# Altium footprint library resistor_footprints.PcbLib: 18 footprints (part 2 of 2)
Each footprint in its own frame and in the unit in brackets; x right, y up, seen from the top. Pads: shape width x height; smd on the part's side, far side on the other; paste and mask are expansions set on the pad; w line width, h text height; cw(c..) or ccw(c..) is an arc to the next point about the centre after c.
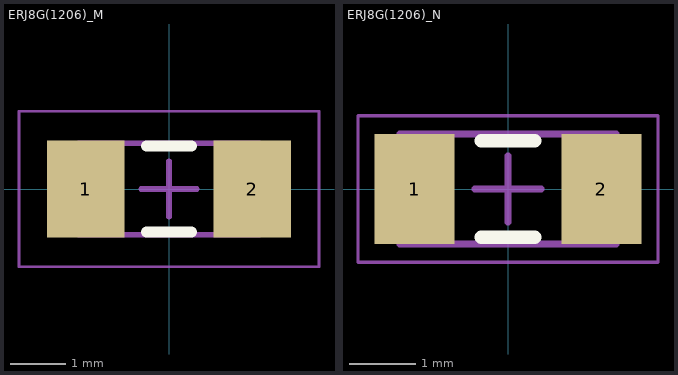
[diagram p1: the footprints below, top view; thin cyan lines are the x and y axes]

## ERJ8G(1206)_M [mm] "Chip Resistor, 2-Leads, Body 3.13x1.55mm, IPC Low Density"
height 0.7
pads (2):
  rect 1.4x1.75 smd: 1(-1.5,0) 2(1.5,0)
Top Overlay:
  lines w0.2: -0.4,-0.775 0.4,-0.775 ; -0.4,0.775 0.4,0.775
Top Assembly:
  lines w0.1: -1.625,-0.825 -1.625,0.825 1.625,0.825 1.625,-0.825 -1.625,-0.825
Top Courtyard:
  lines w0.05: -2.7,-1.4 -2.7,1.4 2.7,1.4 2.7,-1.4 -2.7,-1.4
  lines w0.1: -0.5,0 0.5,0 ; 0,-0.5 0,0.5
3D body: height 0.7, standoff 0, extent -1.125,-0.825 1.125,0.825
3D body: height 0.7, standoff 0, extent -1.625,-0.825 -1.125,0.825
3D body: height 0.7, standoff 0, extent 1.125,-0.825 1.625,0.825

## ERJ8G(1206)_N [mm] "Chip Resistor, 2-Leads, Body 3.13x1.55mm, IPC Medium Density"
height 0.7
pads (2):
  rect 1.2x1.65 smd: 1(-1.4,0) 2(1.4,0)
Top Overlay:
  lines w0.2: -0.4,-0.725 0.4,-0.725 ; -0.4,0.725 0.4,0.725
Top Assembly:
  lines w0.1: -1.625,-0.825 1.625,-0.825 1.625,0.825 -1.625,0.825 -1.625,-0.825
Top Courtyard:
  lines w0.05: -2.25,-1.1 2.25,-1.1 2.25,1.1 -2.25,1.1 -2.25,-1.1
  lines w0.1: -0.5,0 0.5,0 ; 0,-0.5 0,0.5
3D body: height 0.7, standoff 0, extent 1.125,-0.825 1.625,0.825
3D body: height 0.7, standoff 0, extent -1.625,-0.825 -1.125,0.825
3D body: height 0.7, standoff 0, extent -1.125,-0.825 1.125,0.825